# Altium footprint library SMD generic footprints.PcbLib: 20 footprints (part 2 of 2)
Each footprint in its own frame and in the unit in brackets; x right, y up, seen from the top. Pads: shape width x height; smd on the part's side, far side on the other; paste and mask are expansions set on the pad; w line width, h text height; cw(c..) or ccw(c..) is an arc to the next point about the centre after c.
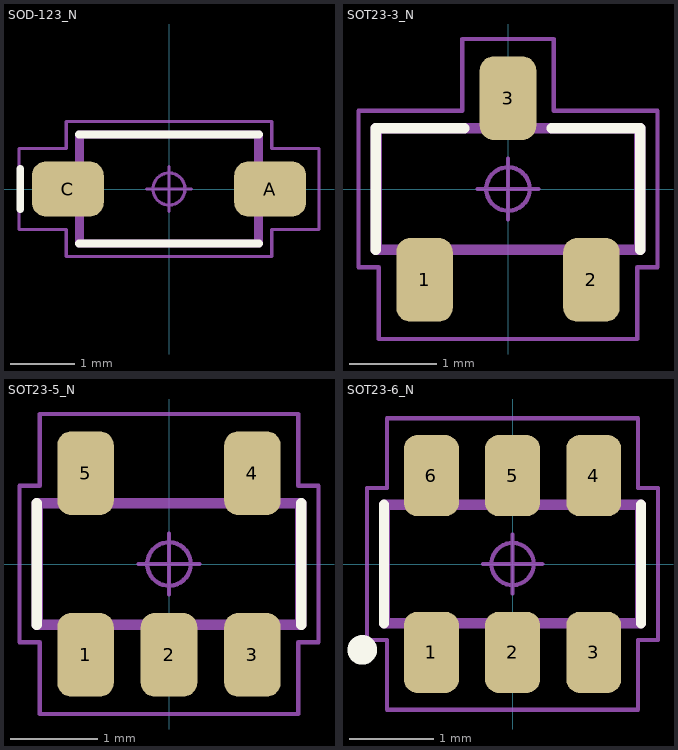
[diagram p1: the footprints below, top view; thin cyan lines are the x and y axes]

## SOD-123_N [mm] "Diode, Small Outline Diode (SOD); 2.675 mm L X 1.60 mm W X 1.30 mm H body"
height 1.3
pads (2):
  rrect51% 1.12x0.86 smd: A(1.575,0) C(-1.575,0)
Top Overlay:
  lines w0.12: -2.315,-0.31 -2.315,0.31 ; -1.4,-0.85 1.4,-0.85 ; -1.4,0.85 1.4,0.85
Mechanical 13:
  lines w0.025: -1.338,-0.8 1.338,-0.8 1.338,0.8 -1.338,0.8 -1.338,-0.8
Mechanical 15:
  circle w0.05: c0,0 r0.25
  lines w0.05: -0.35,0 0.35,0 ; 0,-0.35 0,0.35 ; -2.335,-0.63 -1.6,-0.63 -1.6,-1.05 1.6,-1.05 1.6,-0.63 2.335,-0.63 2.335,0.63 1.6,0.63 1.6,1.05 -1.6,1.05 -1.6,0.63 -2.335,0.63 -2.335,-0.63
Mechanical 19:
  lines w0.025: -1.8,-0.312 -1.8,0.312 -1.5,0.312 -1.5,-0.312 -1.8,-0.312 ; 1.5,-0.312 1.8,-0.312 1.8,0.312 1.5,0.312 1.5,-0.312
Mechanical 21:
  lines w0.12: -1.4,-0.85 1.4,-0.85 1.4,0.85 -1.4,0.85 -1.4,-0.85
3D body "SOD-123_N.STEP": height 1.3, standoff 0, extent -1.8,-0.8 1.8,0.8

## SOT23-3_N [mm] "Small Outline Transistor (SOT23), 0.96 mm pitch; 3 pin, 2.92 mm L X 1.30 mm W X 1.12 mm H body"
height 1.12
pads (3):
  rrect49% 0.65x0.96 smd: 1(-0.96,-1.045) 2(0.96,-1.045) 3(0,1.045)
Top Overlay:
  lines w0.12: -1.52,-0.7 -1.52,0.7 -0.505,0.7 ; 0.505,0.7 1.52,0.7 1.52,-0.7
Mechanical 13:
  lines w0.025: -1.46,-0.65 -1.46,0.65 1.46,0.65 1.46,-0.65 -1.46,-0.65
Mechanical 15:
  circle w0.05: c0,0 r0.25
  lines w0.05: -0.35,0 0.35,0 ; 0,-0.35 0,0.35 ; -1.72,-0.9 -1.72,0.9 -0.525,0.9 -0.525,1.725 0.525,1.725 0.525,0.9 1.72,0.9 1.72,-0.9 1.485,-0.9 1.485,-1.725 -1.485,-1.725 -1.485,-0.9 -1.72,-0.9
Mechanical 19:
  lines w0.025: -1.18,-1.185 -0.74,-1.185 -0.74,-0.96 -1.18,-0.96 -1.18,-1.185 ; -0.22,0.96 0.22,0.96 0.22,1.185 -0.22,1.185 -0.22,0.96 ; 0.74,-1.185 1.18,-1.185 1.18,-0.96 0.74,-0.96 0.74,-1.185
Mechanical 21:
  lines w0.12: -1.52,-0.7 -1.52,0.7 1.52,0.7 1.52,-0.7 -1.52,-0.7
3D body "SOT23-3_N.STEP": height 1.12, standoff 0, extent -1.46,-1.185 1.46,1.185

## SOT23-5_N [mm] "Small Outline Transistor (SOT23), 0.96 mm pitch; 5 pin, 2.92 mm L X 1.30 mm W X 1.12 mm H body"
height 1.12
pads (5):
  rrect49% 0.65x0.96 smd: 1(-0.96,-1.045) 2(0,-1.045) 3(0.96,-1.045) 4(0.96,1.045) 5(-0.96,1.045)
Top Overlay:
  lines w0.12: -1.52,-0.7 -1.52,0.7 ; 1.52,-0.7 1.52,0.7
Mechanical 13:
  lines w0.025: -1.46,-0.65 1.46,-0.65 1.46,0.65 -1.46,0.65 -1.46,-0.65
Mechanical 15:
  circle w0.05: c0,0 r0.25
  lines w0.05: -0.35,0 0.35,0 ; 0,-0.35 0,0.35 ; -1.72,-0.9 -1.485,-0.9 -1.485,-1.725 1.485,-1.725 1.485,-0.9 1.72,-0.9 1.72,0.9 1.485,0.9 1.485,1.725 -1.485,1.725 -1.485,0.9 -1.72,0.9 -1.72,-0.9
Mechanical 19:
  lines w0.025: -1.18,-1.185 -1.18,-0.96 -0.74,-0.96 -0.74,-1.185 -1.18,-1.185 ; -1.18,0.96 -1.18,1.185 -0.74,1.185 -0.74,0.96 -1.18,0.96 ; -0.22,-1.185 -0.22,-0.96 0.22,-0.96 0.22,-1.185 -0.22,-1.185 ; 0.74,-1.185 0.74,-0.96 1.18,-0.96 1.18,-1.185 0.74,-1.185 ; 0.74,0.96 0.74,1.185 1.18,1.185 1.18,0.96 0.74,0.96
Mechanical 21:
  lines w0.12: -1.52,-0.7 1.52,-0.7 1.52,0.7 -1.52,0.7 -1.52,-0.7
3D body "SOT23-5_N.STEP": height 1.12, standoff 0, extent -1.46,-1.185 1.46,1.185

## SOT23-6_N [mm] "Small Outline Transistor (SOT23), 0.96 mm pitch; 6 pin, 2.92 mm L X 1.30 mm W X 1.12 mm H body"
height 1.12
pads (6):
  rrect49% 0.65x0.96 smd: 1(-0.96,-1.045) 2(0,-1.045) 3(0.96,-1.045) 4(0.96,1.045) 5(0,1.045) 6(-0.96,1.045)
Top Overlay:
  circle w0.25: c-1.778,-1.016 r0.05
  lines w0.12: -1.52,-0.7 -1.52,0.7 ; 1.52,-0.7 1.52,0.7
Mechanical 13:
  lines w0.025: -1.46,-0.65 1.46,-0.65 1.46,0.65 -1.46,0.65 -1.46,-0.65
Mechanical 15:
  circle w0.05: c0,0 r0.25
  lines w0.05: -0.35,0 0.35,0 ; 0,-0.35 0,0.35 ; -1.72,-0.9 -1.485,-0.9 -1.485,-1.725 1.485,-1.725 1.485,-0.9 1.72,-0.9 1.72,0.9 1.485,0.9 1.485,1.725 -1.485,1.725 -1.485,0.9 -1.72,0.9 -1.72,-0.9
Mechanical 19:
  lines w0.025: -1.18,-1.185 -1.18,-0.96 -0.74,-0.96 -0.74,-1.185 -1.18,-1.185 ; -1.18,0.96 -1.18,1.185 -0.74,1.185 -0.74,0.96 -1.18,0.96 ; -0.22,-1.185 -0.22,-0.96 0.22,-0.96 0.22,-1.185 -0.22,-1.185 ; -0.22,0.96 -0.22,1.185 0.22,1.185 0.22,0.96 -0.22,0.96 ; 0.74,-1.185 0.74,-0.96 1.18,-0.96 1.18,-1.185 0.74,-1.185 ; 0.74,0.96 0.74,1.185 1.18,1.185 1.18,0.96 0.74,0.96
Mechanical 21:
  lines w0.12: -1.52,-0.7 1.52,-0.7 1.52,0.7 -1.52,0.7 -1.52,-0.7
3D body "SOT23-6_N.STEP": height 1.12, standoff 0, extent -1.46,-1.185 1.46,1.185